# Altium schematic symbol library Interface.SchLib: 26 symbols
Pins are listed as number, name and electrical type; pins without a type are passive.

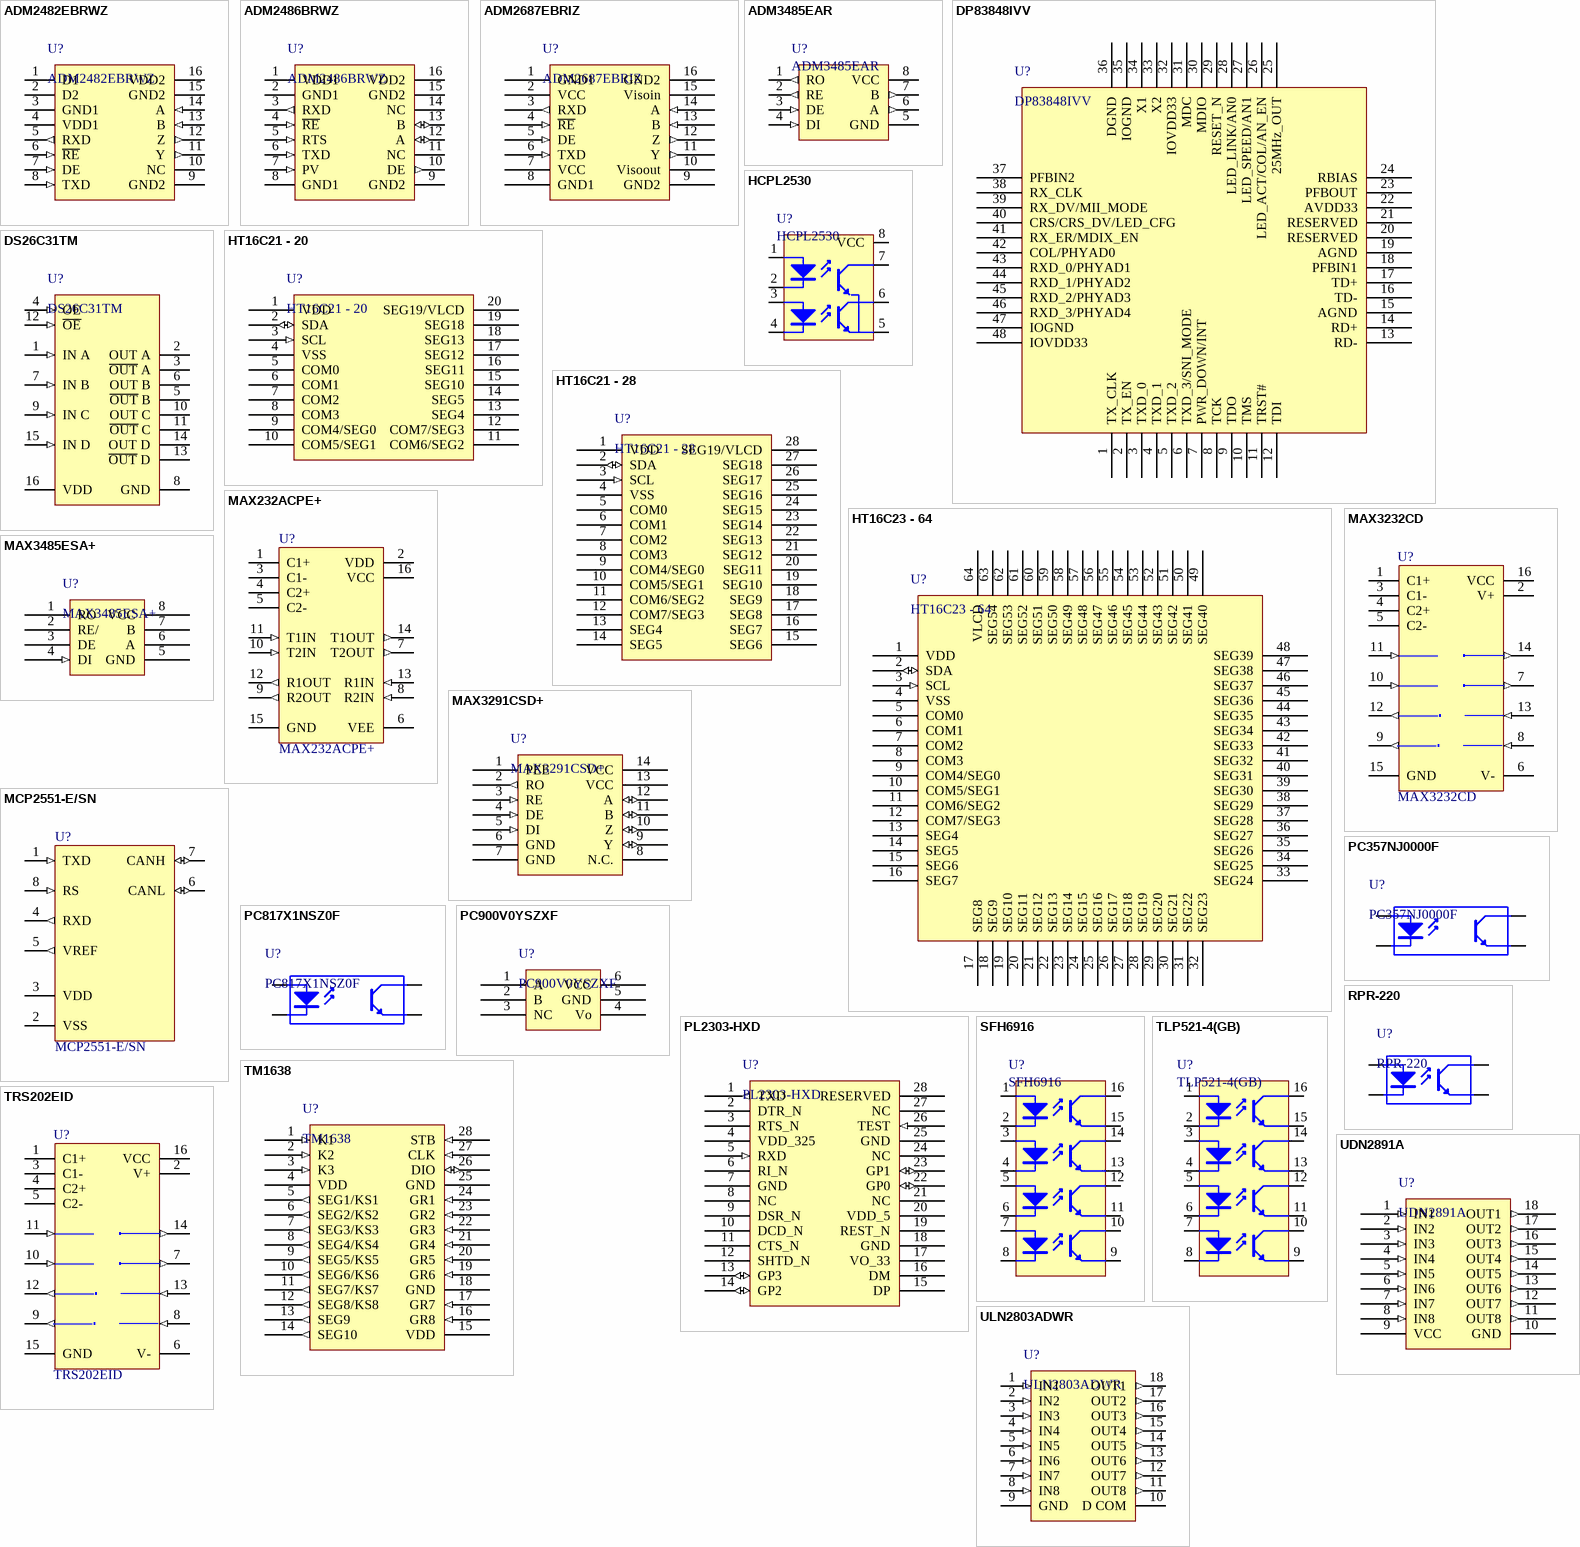
[diagram p0: symbols ADM2482EBRWZ to ULN2803ADWR]

## ADM2482EBRWZ
designator U?
數碼隔離器 2.5kV Signal Iso Full/Half Duplex, SOIC-16; 單價: 321.11; 製造商: Analog Devices; 代理商: mouser; 參考網站: http://www.mouser.tw/ProductDetail/Analog-Devices/ADM2482EBRWZ/?qs=sGAEpiMZZMv9Q1JI0Mo%2ftQYvGh5fx5sn; 資料手冊: http://www.mouser.com/ds/2/609/ADM2482E_2487E-878598.pdf
footprint SOIC 16P (7.5mm X 10.3mm)
pins: 1 D1, 2 D2, 3 GND1 (power), 4 VDD1 (power), 5 RXD (out), 6 ~{RE} (in), 7 DE (in), 8 TXD (in), 9 GND2 (power), 10 NC, 11 Y (out), 12 Z (out), 13 B (in), 14 A (in), 15 GND2 (power), 16 VDD2 (power)

## ADM2486BRWZ
designator U?
數碼隔離器 2.5kV Signal Iso Full/Half Duplex, SOIC-16; 單價: 281.51; 製造商: Analog Devices; 代理商: mouser; 參考網站: http://www.mouser.tw/ProductDetail/Analog-Devices/ADM2486BRWZ-REEL/?qs=sGAEpiMZZMv9Q1JI0Mo%2ftUn%252bNs%252bIqPnn; 資料手冊: http://www.analog.com/media/en/technical-documentation/data-sheets/ADM2486.pdf
footprint SOIC 16P (7.5mm X 10.3mm)
pins: 1 VDD1 (power), 2 GND1 (power), 3 RXD (out), 4 ~{RE} (in), 5 RTS (in), 6 TXD (in), 7 PV (in), 8 GND1 (power), 9 GND2 (power), 10 DE (out), 11 NC, 12 A (io), 13 B (io), 14 NC, 15 GND2 (power), 16 VDD2 (power)

## ADM2687EBRIZ
designator U?
數碼隔離器 500kbps 5kV RMS Sgnl & Pwr Iso Trnsceiver; 製造商: Analog Devices; 單價: 470.25; 代理商: mouser; 參考網站: http://www.mouser.tw/ProductDetail/Analog-Devices/ADM2687EBRIZ/?qs=sGAEpiMZZMssyD0wnx%2fymCCDPdsQyP%2f2rz2siIhIMm0%3d; 資料手冊: http://www.analog.com/media/en/technical-documentation/data-sheets/ADM2682E_2687E.pdf
footprint SOIC 16P (7.5mm X 10.3mm)
pins: 1 GND1 (power), 2 VCC (power), 3 RXD (out), 4 ~{RE} (in), 5 DE (in), 6 TXD (in), 7 VCC (power), 8 GND1 (power), 9 GND2 (power), 10 Visoout (power), 11 Y (out), 12 Z (out), 13 B (in), 14 A (in), 15 Visoin (power), 16 GND2 (power)

## ADM3485EAR
designator U?
RS-422/RS-485介面IC 3 VOLT RS-485 HIGH ESD I.C.,  SOIC-8; 單價: 96.69; 製造商: Analog Devices; 代理商: mouser; 資料手冊: http://www.analog.com/media/en/technical-documentation/data-sheets/ADM3485E.pdf; 應用文件: http://www.analog.com/media/en/reference-design-documentation/reference-designs/CN0313.pdf; 參考網站: http://www.mouser.tw/ProductDetail/Analog-Devices/ADM3485EAR/?qs=sGAEpiMZZMuXae9YOZoWd6hab6fF2LxCMA01TDSpGN4%3d
footprint SOIC 8P
pins: 1 RO (out), 2 RE (out), 3 DE (in), 4 DI (in), 5 GND (power), 6 A (out), 7 B (out), 8 VCC (power)

## DP83848IVV
designator U?
乙太網路 IC PHYTER Industrial Temp SGL Port,  LQFP-48; 單價: 186.96; 單價1: 41.5; 製造商: Texas Instruments; 代理商: mouser; 資料手冊: http://www.mouser.com/ds/2/405/dp83848i-441505.pdf; 參考網站: http://www.mouser.tw/ProductDetail/Texas-Instruments/DP83848IVV-NOPB/?qs=7X5t%252bdzoRHDRcLKALWIuNw%3D%3D; 參考網站: https://detail.tmall.com/item.htm?spm=a230r.1.14.4.gNsSMB&id=16082064796&ns=1&abbucket=2
footprint LQFP48_N (Thin QFP, 48-Leads, Body 7x7mm, Pitch 0.5mm, IPC Medium Density)
pins: 1 TX_CLK, 2 TX_EN, 3 TXD_0, 4 TXD_1, 5 TXD_2, 6 TXD_3/SNI_MODE, 7 PWR_DOWN/INT, 8 TCK, 9 TDO, 10 TMS, 11 TRST#, 12 TDI, 13 RD-, 14 RD+, 15 AGND (power), 16 TD-, 17 TD+, 18 PFBIN1, 19 AGND (power), 20 RESERVED, 21 RESERVED, 22 AVDD33 (power), 23 PFBOUT, 24 RBIAS, 25 25MHz_OUT, 26 LED_ACT/COL/AN_EN, 27 LED_SPEED/AN1, 28 LED_LINK/AN0, 29 RESET_N, 30 MDIO, 31 MDC, 32 IOVDD33 (power), 33 X2, 34 X1, 35 IOGND (power), 36 DGND (power), 37 PFBIN2, 38 RX_CLK, 39 RX_DV/MII_MODE, 40 CRS/CRS_DV/LED_CFG, 41 RX_ER/MDIX_EN, 42 COL/PHYAD0, 43 RXD_0/PHYAD1, 44 RXD_1/PHYAD2, 45 RXD_2/PHYAD3, 46 RXD_3/PHYAD4, 47 IOGND (power), 48 IOVDD33 (power)

## DS26C31TM
designator U?
RS-422接口IC CMOS QUAD TRI-STATE DIFF LINE DRVR; 單價: 63.51; 製造商: Texas Instruments; 代理商: mouser; 參考網站: http://www.mouser.tw/ProductDetail/Texas-Instruments/DS26C31TM-NOPB/?qs=sGAEpiMZZMvu8NZDyZ4K0drf%252bw3oti%252bX; 資料手冊: http://www.ti.com/lit/ds/symlink/ds26c31t.pdf
footprint SOIC 16P(Narrow) (3.9mm X 9.9mm)
pins: 1 IN A (in), 2 OUT A (hiz), 3 ~{OUT} A (hiz), 4 OE (in), 5 ~{OUT} B (hiz), 6 OUT B (hiz), 7 IN B (in), 8 GND (power), 9 IN C (in), 10 OUT C (hiz), 11 ~{OUT} C (hiz), 12 ~{OE} (in), 13 ~{OUT} D (hiz), 14 OUT D (hiz), 15 IN D (in), 16 VDD (power)

## HCPL2530
designator U?
高速光電耦合器 DIP-8 DUAL HS PH TRN; 製造商: Fairchild Semiconductor; 單價: 71.36; 代理商: mouser; 資料手冊: http://www.mouser.com/ds/2/149/HCPL2530-185334.pdf; 參考網站: http://www.mouser.tw/ProductDetail/Fairchild-Semiconductor/HCPL2530/?qs=sGAEpiMZZMtdAabcSkQOlwiLYP%252bTkiCv
footprint DIP-8
pins: 1 A "Anode", 2 K "Cathode", 3 A "Anode", 4 K "Cathode", 5 E "Emitter", 6 C "Collector", 7 C "Collector", 8 VCC "Collector"

## HT16C21 - 20
designator U?
LCD driver,The HT16C21 device is a memory mapping and multi-function LCD controller/driver; Operating voltage: 2.4 - 5.5V; Internal: 32kHz RC oscillator; Bias: 1/3 or 1/4; Duty: 1/4 or 1/8; IO: I2C interface; Two selectable LCD frame frequencies: 80Hz or 160Hz; Display patterns: 20 x 4 patterns: 20 segments and 4 commons; Display patterns: 16 x 8 patterns: 16 segments and 8 commons; helpURL: http://www.holtek.com.tw/pdf/Display_Driver/HT16c21v100.pdf
footprint SOP 20P (1.27 mm 寬7.5mm)
pins: 1 VDD (power), 2 SDA (io), 3 SCL (in), 4 VSS (power), 5 COM0, 6 COM1, 7 COM2, 8 COM3, 9 COM4/SEG0, 10 COM5/SEG1, 11 COM6/SEG2, 12 COM7/SEG3, 13 SEG4, 14 SEG5, 15 SEG10, 16 SEG11, 17 SEG12, 18 SEG13, 19 SEG18, 20 SEG19/VLCD

## HT16C21 - 28
designator U?
LCD driver,The HT16C21 device is a memory mapping and multi-function LCD controller/driver; Operating voltage: 2.4 - 5.5V; Internal: 32kHz RC oscillator; Bias: 1/3 or 1/4; Duty: 1/4 or 1/8; IO: I2C interface; Two selectable LCD frame frequencies: 80Hz or 160Hz; Display patterns: 20 x 4 patterns: 20 segments and 4 commons; Display patterns: 16 x 8 patterns: 16 segments and 8 commons; helpURL: http://www.holtek.com.tw/pdf/Display_Driver/HT16c21v100.pdf
footprint SOP 28P (1.27 mm 寬7.5mm)
pins: 1 VDD (power), 2 SDA (io), 3 SCL (in), 4 VSS (power), 5 COM0, 6 COM1, 7 COM2, 8 COM3, 9 COM4/SEG0, 10 COM5/SEG1, 11 COM6/SEG2, 12 COM7/SEG3, 13 SEG4, 14 SEG5, 15 SEG6 (power), 16 SEG7 (power), 17 SEG8 (power), 18 SEG9 (power), 19 SEG10 (power), 20 SEG11 (power), 21 SEG12 (power), 22 SEG13 (power), 23 SEG14 (power), 24 SEG15 (power), 25 SEG16 (power), 26 SEG17 (power), 27 SEG18 (power), 28 SEG19/VLCD (power)

## HT16C23 - 64
designator U?
LCD driver, HT16C23/HT16C23G device is a memory mapping and multi-function LCD controller driver.; Operating voltage: 2.4 - 5.5V; Internal: 32kHz RC oscillator; Bias: 1/3 or 1/4; Duty: 1/4 or 1/8; interface: I2C; Two Selectable LCD frame frequencies: 80Hz or 160Hz; Display patterns: 56 x 4 patterns: 56 segments and 4 commons; Display patterns: 52 x 8 patterns: 52 segments and 8 commons; helpURL: http://www.holtek.com.tw/pdf/consumer/ht16c23v110.pdf; Package Type: 48LQFP, 64LQFP and COB package.
footprint LQFP-64 0.4mm (7mm X 7mm 0.4mm)
pins: 1 VDD (power), 2 SDA (io), 3 SCL (in), 4 VSS (power), 5 COM0, 6 COM1, 7 COM2, 8 COM3, 9 COM4/SEG0, 10 COM5/SEG1, 11 COM6/SEG2, 12 COM7/SEG3, 13 SEG4, 14 SEG5, 15 SEG6, 16 SEG7, 17 SEG8, 18 SEG9, 19 SEG10, 20 SEG11, 21 SEG12, 22 SEG13, 23 SEG14, 24 SEG15, 25 SEG16, 26 SEG17, 27 SEG18, 28 SEG19, 29 SEG20, 30 SEG21, 31 SEG22, 32 SEG23, 33 SEG24, 34 SEG25, 35 SEG26, 36 SEG27, 37 SEG28, 38 SEG29, 39 SEG30, 40 SEG31, 41 SEG32, 42 SEG33, 43 SEG34, 44 SEG35, 45 SEG36, 46 SEG37, 47 SEG38, 48 SEG39, 49 SEG40, 50 SEG41, 51 SEG42, 52 SEG43, 53 SEG44, 54 SEG45, 55 SEG46, 56 SEG47, 57 SEG48, 58 SEG49, 59 SEG50, 60 SEG51, 61 SEG52, 62 SEG53, 63 SEG54, 64 VLCD (power)

## MAX232ACPE+
designator U?
RS-232接口IC 5V MultiCh RS-232 Driver/Receiver, DIP 16; 製造商: Maxim Integrated; 單價: 178.04; 代理商: mouser; 參考網站: http://www.mouser.tw/ProductDetail/Maxim-Integrated/MAX232ACPE+/?qs=sGAEpiMZZMtnIqnDeWcRHUtumypDpQDCv4cSYmApFFc%3d; 資料手冊: http://www.mouser.com/ds/2/256/MAX220-MAX249-67423.pdf
footprint DIP-16 - dip&ic
footprint DIP-16 - ic
footprint DIP-16
pins: 1 C1+, 2 VDD (power), 3 C1-, 4 C2+, 5 C2-, 6 VEE (power), 7 T2OUT (out), 8 R2IN (in), 9 R2OUT (out), 10 T2IN (in), 11 T1IN (in), 12 R1OUT (out), 13 R1IN (in), 14 T1OUT (out), 15 GND (power), 16 VCC (power)

## MAX3232CD
designator U?
RS-232接口IC 3-5.5V Multichannel Line Drvr/Rcvr; 製造商: Texas Instruments; 單價: 78.49; 代理商: mouser; 參考網站: http://www.mouser.tw/Search/ProductDetail.aspx?qs=paYhMW8qfiv65kHlbxjt%2fQ%3d%3d; 資料手冊: http://pdfserv.maximintegrated.com/en/ds/MAX3222-MAX3241.pdf
footprint SOIC 16P(Narrow) (3.9mm X 9.9mm)
pins: 1 C1+, 2 V+ (power), 3 C1-, 4 C2+, 5 C2-, 6 V- (power), 7 T2OUT (out), 8 R2IN (in), 9 R2OUT (out), 10 T2IN (in), 11 T1IN (in), 12 R1OUT (out), 13 R1IN (in), 14 T1OUT (out), 15 GND (power), 16 VCC (power)

## MAX3291CSD+
designator U?
RS-422/RS-485介面IC For Long-Distance Communication, SOP 14P; 製造商: Maxim Integrated; 單價: 186.60; 代理商: mouser; 參考網站: http://www.mouser.tw/ProductDetail/Maxim-Integrated/MAX3291CSD+/?qs=sGAEpiMZZMuXae9YOZoWd2EMEyiB%2fMau27ggYa%252bxUTw%3d; 資料手冊: http://www.mouser.com/ds/2/256/MAX3291-MAX3292-103523.pdf
footprint SOP 14P (間距1.27mm)
pins: 1 PEE, 2 RO (out), 3 RE (in), 4 DE (in), 5 DI (in), 6 GND (power), 7 GND (power), 8 N.C. (power), 9 Y (io), 10 Z (io), 11 B (io), 12 A (io), 13 VCC (power), 14 VCC (power)

## MAX3485ESA+
designator U?
RS-422/RS-485介面IC 3.3V 10Mbps Transceiver, SOP 8P; 製造商: Maxim Integrated; 單價: 122.02; 代理商: mouser; 參考網站: http://www.mouser.tw/ProductDetail/Maxim-Integrated/MAX3485ESA+/?qs=sGAEpiMZZMuXae9YOZoWd9EBnNihOkMOsqLkqPuCT1o%3d; 資料手冊: http://www.mouser.com/ds/2/256/MAX3483-MAX3491-76586.pdf
footprint SOP 8P (1.27mm間距)
pins: 1 RO, 2 RE/, 3 DE, 4 DI (in), 5 GND (power), 6 A, 7 B, 8 VCC

## MCP2551-E/SN
designator U?
CAN總線接口IC Hi Spd CAN Transceiv, 8-Pin SOIC; 製造商: Microchip Technology; 單價: 45.67; 代理商: mouser; 參考網站: http://www.mouser.tw/ProductDetail/Microchip-Technology/MCP2551-E-SN/?qs=sGAEpiMZZMsGqoCZrYwANpbX9NuNAEUBqTDqbhkf85M%3d; 資料手冊: http://www.mouser.com/ds/2/268/21667d-63675.pdf; Supplier 1: Mouser; Supplier Part Number 1: 579-MCP2551-E/SN
footprint SOIC 8P (3.9mm 寬)
pins: 1 TXD (in), 2 VSS (power), 3 VDD (power), 4 RXD (out), 5 VREF (out), 6 CANL (io), 7 CANH (io), 8 RS (in)

## PC357NJ0000F
designator U?
電晶體輸出光耦器 Photocoupler DC Input; 製造商: Sharp Microelectronics; 單價: 22.83; 代理商: mouser; 資料手冊: http://www.mouser.com/ds/2/365/pc357m_eJ-183346.pdf; 參考網站: http://www.mouser.tw/ProductDetail/Sharp-Microelectronics/PC357NJ0000F/?qs=sGAEpiMZZMsyM1rGGtQxrEAXEaiOlhttp://www.mouser.tw/ProductDetail/Sharp-Microelectronics/PC357NJ0000F/?qs=sGAEpiMZZMsyM1rGGtQxrEAXEaiOl7lU
footprint SOP-4P (1.27mm)
pins: 1 A "Anode", 2 K "Cathode", 3 E "Emitter", 4 C "Collector"

## PC817X1NSZ0F
designator U?
電晶體輸出光耦器 80-160% CTR rank; 製造商: Sharp Microelectronics; 單價: 17.13; 代理商: mouser; 資料手冊: http://www.mkpochtoi.ru/pc817_ds.pdf; 參考網站: http://www.mouser.tw/ProductDetail/Sharp-Microelectronics/PC817X1NSZ0F/?qs=sGAEpiMZZMteimceiIVCBwM%252bPK3Qn%2f7S56h3UOSTtSc%3d
footprint DIP-IC-4P (間距2.54mm,對點7.62mm,IC腳寬度0.5mm)
pins: 1 A "Anode", 2 K "Cathode", 3 E "Emitter", 4 C "Collector"

## PC900V0YSZXF
designator U?
高速光電耦合器 VDE Approved PC900V0NSZXF; 製造商: Sharp Microelectronics; 代理商: mouser; 單價: 52.8; 參考網站: http://www.mouser.tw/ProductDetail/Sharp-Microelectronics/PC900V0YSZXF/?qs=%2fha2pyFaduhivOWrluFDY7YyCho0%252b%252bVWEx6cxxSDavZrrnlMteqfow%3d%3d; 資料手冊: http://www.mouser.com/ds/2/365/pc900v0nszx_ej-180439.pdf
footprint DIP-6
pins: 1 A, 2 B, 3 NC, 4 Vo, 5 GND (power), 6 VCC (power)

## PL2303-HXD
designator U?
USB to Serial Bridge Controller; 製造商: Prolific; 參考網站: http://www.oneping.com.tw/downlaod/PL2303HXD/ds_pl2303HXD_v1.3.pdf; 資料手冊: http://www.prolific.com.tw/UserFiles/files/ds_pl2303HXD_v1_4_4.pdf; 單價: *; 代理商: *
footprint SSOP 28P (0.65mm)
pins: 1 TXD (out), 2 DTR_N (power), 3 RTS_N (power), 4 VDD_325 (power), 5 RXD (in), 6 RI_N (power), 7 GND (power), 8 NC (power), 9 DSR_N (power), 10 DCD_N (power), 11 CTS_N (power), 12 SHTD_N (power), 13 GP3 (io), 14 GP2 (io), 15 DP (power), 16 DM (power), 17 VO_33 (power), 18 GND (power), 19 REST_N (power), 20 VDD_5 (power), 21 NC (power), 22 GP0 (io), 23 GP1 (io), 24 NC (power), 25 GND (power), 26 TEST (in), 27 NC (power), 28 RESERVED (power)

## RPR-220
designator U?
光學開關，反光，光晶體管輸出 PHOTO SENSOR DISTANCE 6mm; 製造商: ROHM Semiconductor; 單價: 52.45; 代理商: mouser; 資料手冊: http://www.mouser.com/ds/2/348/rpr-220-89278.pdf; 參考網站: http://www.mouser.tw/ProductDetail/ROHM-Semiconductor/RPR-220/?qs=sGAEpiMZZMvcRsgoMFfePyYh1bRHr3Lk
footprint Bulk
pins: 1 A "Anode", 2 K "Cathode", 3 E "Emitter", 4 C "Collector"

## SFH6916
designator U?
電晶體輸出光耦器 Phototransistor Out Quad CTR 50-300%, SOP 16; 製造商: Vishay Semiconductors; 單價: 176.61; 代理商: mouser; 資料手冊: http://www.vishay.com/docs/83687/sfh6916.pdf; 參考網站: http://www.mouser.tw/ProductDetail/Vishay/SFH6916/?qs=%2fha2pyFadui%2fSeJ7oDNFEUWWXNZYWZpfdAOCKp20rX8%3d
footprint SOP 16P (1.27mm)
pins: 1 A "Anode", 2 K "Cathode", 3 A "Anode", 4 K "Cathode", 5 A "Anode", 6 K "Cathode", 7 A "Anode", 8 K "Cathode", 9 E "Emitter", 10 C "Collector", 11 E "Emitter", 12 C "Collector", 13 E "Emitter", 14 C "Collector", 15 E "Emitter", 16 C "Collector"

## TLP521-4(GB)
designator U?
低速光耦合Transistor Output Optocoupler, 4 Channel, 2.5 kV, 100 %, 25 mA, DIP, 16 Pins; 製造商: TOSHIBA; 資料手冊: http://pdf.datasheetcatalog.com/datasheet/toshiba/2233.pdf; 代理商: *; 單價: *; 參考網站: http://au.element14.com/toshiba/tlp521-4-gb/optocoupler-quad-transistor-o/dp/1225843
footprint DIP-IC-16P
pins: 1 A "Anode", 2 K "Cathode", 3 A "Anode", 4 K "Cathode", 5 A "Anode", 6 K "Cathode", 7 A "Anode", 8 K "Cathode", 9 E "Emitter", 10 C "Collector", 11 E "Emitter", 12 C "Collector", 13 E "Emitter", 14 C "Collector", 15 E "Emitter", 16 C "Collector"

## TM1638
designator U?
天微七段顯示驅動IC 10段8位 內部RC震盪; 邏輯電源電壓(極限值): 0.5 - 7V; LED Seg驅動電流: -50mA; LED Grid驅動電流: +200mA; 功率損耗: 400mW; 鍵盤掃描: 8 X 3Bit; 功能: 內建復位電路; 顯示模式: 10段8位
footprint SOP 28P (1.27 mm 寬7.5mm)
pins: 1 K1 (in), 2 K2 (in), 3 K3 (in), 4 VDD (power), 5 SEG1/KS1 (out), 6 SEG2/KS2 (out), 7 SEG3/KS3 (out), 8 SEG4/KS4 (out), 9 SEG5/KS5 (out), 10 SEG6/KS6 (out), 11 SEG7/KS7 (out), 12 SEG8/KS8 (out), 13 SEG9 (out), 14 SEG10 (out), 15 VDD (power), 16 GR8 (in), 17 GR7 (in), 18 GND (power), 19 GR6 (in), 20 GR5 (in), 21 GR4 (in), 22 GR3 (in), 23 GR2 (in), 24 GR1 (in), 25 GND (power), 26 DIO (io), 27 CLK (in), 28 STB (in)

## TRS202EID
designator U?
RS-232接口IC 5-V Dual RS-232 Line Driver/Receiver; 製造商: Texas Instruments; 單價: 45.31; 代理商: mouser; 參考網站: http://www.mouser.tw/ProductDetail/Texas-Instruments/TRS202EID/?qs=sGAEpiMZZMtnIqnDeWcRHdUD2a%2fchB8jek5E2nYnu14%3d; 資料手冊: http://www.ti.com/lit/ds/symlink/trs202.pdf
footprint SOIC 16P(Narrow) (3.9mm X 9.9mm)
pins: 1 C1+, 2 V+ (power), 3 C1-, 4 C2+, 5 C2-, 6 V- (power), 7 T2OUT (out), 8 R2IN (in), 9 R2OUT (out), 10 T2IN (in), 11 T1IN (in), 12 R1OUT (out), 13 R1IN (in), 14 T1OUT (out), 15 GND (power), 16 VCC (power)

## UDN2891A
designator U?
高壓與高電流輸出元件。50V, 500mA
footprint SMD SOP 18P (13mm * 10.3mm,間距1.27mm)
pins: 1 IN1 (in), 2 IN2 (in), 3 IN3 (in), 4 IN4 (in), 5 IN5 (in), 6 IN6 (in), 7 IN7 (in), 8 IN8 (in), 9 VCC (power), 10 GND (power), 11 OUT8 (out), 12 OUT7 (out), 13 OUT6 (out), 14 OUT5 (out), 15 OUT4 (out), 16 OUT3 (out), 17 OUT2 (out), 18 OUT1 (out)

## ULN2803ADWR
designator U?
Darlington 電晶體 TRANSISTOR ARRAYS, SOIC 18; 製造商: Texas Instruments; 單價: 32.11; 代理商: mouser; 參考網站: http://www.mouser.tw/ProductDetail/Texas-Instruments/ULN2803ADWR/?qs=sGAEpiMZZMuo%252bmZx5g6tFCyjMgH57qE9; 資料手冊: http://www.ti.com/lit/ds/symlink/uln2803a.pdf
footprint SOIC 18P
pins: 1 IN1 (in), 2 IN2 (in), 3 IN3 (in), 4 IN4 (in), 5 IN5 (in), 6 IN6 (in), 7 IN7 (in), 8 IN8 (in), 9 GND (power), 10 D COM (power), 11 OUT8 (out), 12 OUT7 (out), 13 OUT6 (out), 14 OUT5 (out), 15 OUT4 (out), 16 OUT3 (out), 17 OUT2 (out), 18 OUT1 (out)